# Altium footprint library LED.PcbLib: 20 footprints (part 2 of 2)
Each footprint in its own frame and in the unit in brackets; x right, y up, seen from the top. Pads: shape width x height; smd on the part's side, far side on the other; paste and mask are expansions set on the pad; w line width, h text height; cw(c..) or ccw(c..) is an arc to the next point about the centre after c.
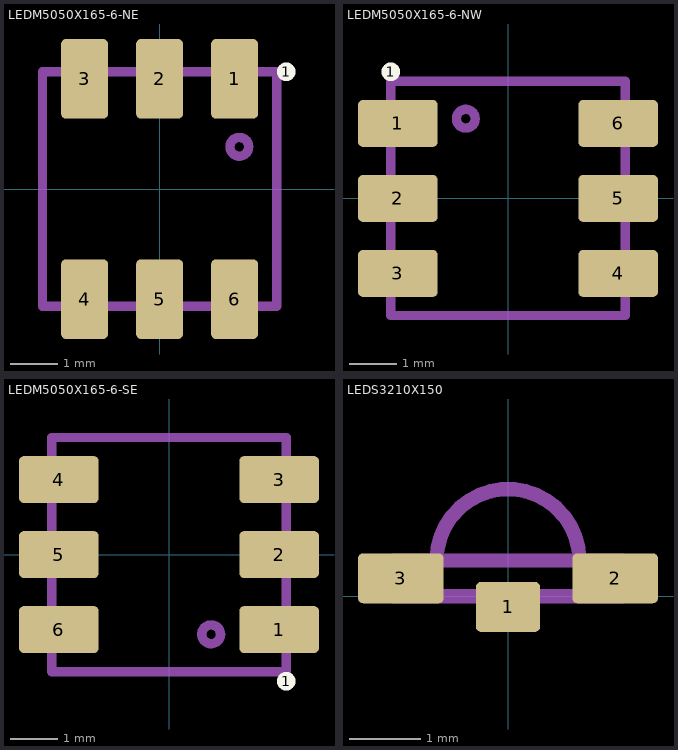
[diagram p1: the footprints below, top view; thin cyan lines are the x and y axes]

## LEDM5050X165-6-NE [mm] "WS2813"
pads (7):
  rrect20% 1x1.7 smd: 1(1.6,2.35) 2(0,2.35) 3(-1.6,2.35) 4(-1.6,-2.35) 5(0,-2.35) 6(1.6,-2.35)
  round 0.4 on Top Overlay: 1(2.7,2.5)
Top Assembly:
  circle w0.2: c1.7,0.9 r0.2
  lines w0.2: -2.5,-2.5 -2.5,2.5 2.5,2.5 2.5,-2.5 -2.5,-2.5
3D body "LEDM5050X165-6.stp": height 1.65, standoff 0, extent -2.5,-2.7 2.5,2.7

## LEDM5050X165-6-NW [mm] "WS2813"
pads (7):
  round 0.4 on Top Overlay: 1(-2.5,2.7)
  rrect20% 1.7x1 smd: 1(-2.35,1.6) 2(-2.35,0) 3(-2.35,-1.6) 4(2.35,-1.6) 5(2.35,0) 6(2.35,1.6)
Top Assembly:
  circle w0.2: c-0.9,1.7 r0.2
  lines w0.2: -2.5,-2.5 -2.5,2.5 2.5,2.5 2.5,-2.5 -2.5,-2.5
3D body "LEDM5050X165-6.stp": height 1.65, standoff 0, extent -2.7,-2.5 2.7,2.5

## LEDM5050X165-6-SE [mm] "WS2813"
pads (7):
  rrect20% 1.7x1 smd: 1(2.35,-1.6) 2(2.35,0) 3(2.35,1.6) 4(-2.35,1.6) 5(-2.35,0) 6(-2.35,-1.6)
  round 0.4 on Top Overlay: 1(2.5,-2.7)
Top Assembly:
  circle w0.2: c0.9,-1.7 r0.2
  lines w0.2: -2.5,-2.5 -2.5,2.5 2.5,2.5 2.5,-2.5 -2.5,-2.5
3D body "LEDM5050X165-6.stp": height 1.65, standoff 0, extent -2.7,-2.5 2.7,2.5

## LEDS3210X150 [mm]
pads (3):
  rrect20% 0.9x0.7 smd: 1(0,-0.15)
  rrect20% 1.2x0.7 smd: 2(1.5,0.25) 3(-1.5,0.25)
Top Assembly:
  lines w0.2: -1,0.5 cw(c0,0.5) 1,0.5 ; -1.6,0 -1.6,0.5 1.6,0.5 1.6,0 -1.6,0
3D body "LEDS3210X150.stp": height 1, standoff 0, extent -1.6,0 1.6,1.483